# EAGLE library part DRV2605L (library EXCISS)
DRV2605L Haptic Driver for ERM and LRA with Built-In Library and Smart Loop Architecture Links Datasheet <http://www.ti.com/lit/ds/symlink/drv2605l.pdf> Product website <http://www.ti.com/product/DRV2605L/description> DRV2605L-Q1 Haptic Driver for ERM and LRA with Built-In Library and Smart Loop Architecture Links Datasheet <http://www.ti.com/lit/gpn/drv2605l-q1> Product website <http://www.ti.com/product/drv2605l-q1/description>
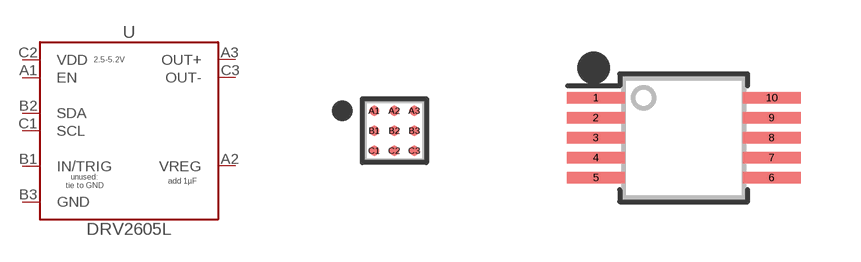
[diagram p15: symbol with the pads of YZF(S-XBGA-N9); footprints YZF(S-XBGA-N9), PSOP10]

Designator prefix U

## DRV2605LYZF  [YZF(S-XBGA-N9)]
A1  EN  in
A2  VREG  out
A3  OUT+  out
B1  IN/TRIG  in
B2  SDA
B3  GND  pwr
C1  SCL  in
C2  VDD  pwr
C3  OUT-  out

## DRV2605LDGS, DRV2605LTDGS (OC_MOUSER: 595-DRV2605LTDGSRQ1)  [PSOP10]
1  VREG  out
2  SCL  in
3  SDA
4  IN/TRIG  in
5  EN  in
6  VDD  pwr
7  OUT+  out
8  GND  pwr
9  OUT-  out
10  VDD  pwr

## Footprint YZF(S-XBGA-N9) (pad centres in mm)
smd 0.25 x 0.25: A1 -0.5,0.5; A2 0,0.5; A3 0.5,0.5; B1 -0.5,0; B2 0,0; B3 0.5,0; C1 -0.5,-0.5; C2 0,-0.5; C3 0.5,-0.5

## Footprint PSOP10 (pad centres in mm)
Source: http://www.ti.com/lit/ds/symlink/drv2605l.pdf
smd 1.45 x 0.28: 1 -2.2,1; 2 -2.2,0.5; 3 -2.2,0; 4 -2.2,-0.5; 5 -2.2,-1; 6 2.2,-1; 7 2.2,-0.5; 8 2.2,0; 9 2.2,0.5; 10 2.2,1